# EAGLE library part A3932 (library allegro)
Three Phase Power MOSFET Controller High current gate drive capability, can drive a wide range of external MOSFETs. Supports motor supply voltages from 12 to 50V. Temp range -20 to 85 C
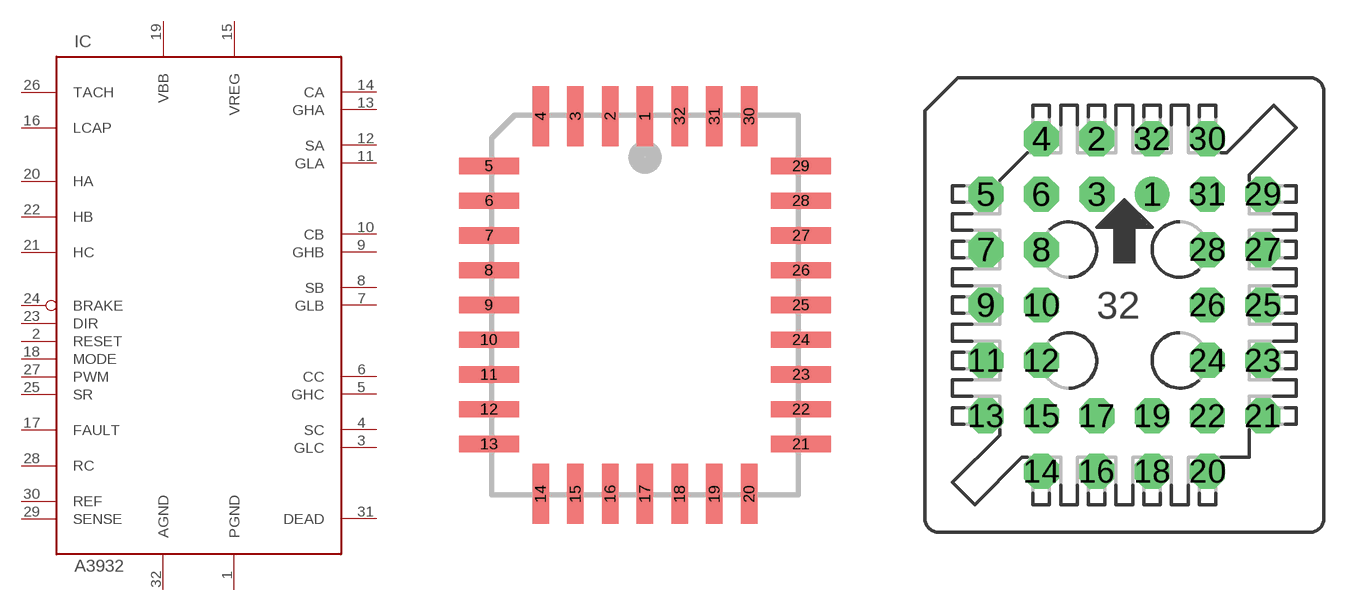
[diagram p3: symbol with the pads of PLCC32R; footprints PLCC32R, PLCC32R-S]

Designator prefix IC

## A3932SEQ  [PLCC32R]
1  PGND  pwr
2  RESET  in
3  GLC  out
4  SC  out
5  GHC  out
6  CC  out
7  GLB  out
8  SB  out
9  GHB  out
10  CB  out
11  GLA  out
12  SA  out
13  GHA  out
14  CA  out
15  VREG  pwr
16  LCAP
17  FAULT  out
18  MODE  in
19  VBB  pwr
20  HA  in
21  HC  in
22  HB  in
23  DIR  in
24  BRAKE  in
25  SR  in
26  TACH  out
27  PWM  in
28  RC
29  SENSE  in
30  REF  in
31  DEAD  in
32  AGND  pwr

## A3932SEQ-S  [PLCC32R-S]
Pads as for PLCC32R

## Footprint PLCC32R (pad centres in mm)
32-pin Rectangular Plastic Lead Chip Carrier
smd 0.6 x 2.2: 1 0,6.9; 2 -1.27,6.9; 3 -2.54,6.9; 4 -3.81,6.9; 14 -3.81,-6.9; 15 -2.54,-6.9; 16 -1.27,-6.9; 17 0,-6.9; 18 1.27,-6.9; 19 2.54,-6.9; 20 3.81,-6.9; 30 3.81,6.9; 31 2.54,6.9; 32 1.27,6.9
smd 2.2 x 0.6: 5 -5.7,5.08; 6 -5.7,3.81; 7 -5.7,2.54; 8 -5.7,1.27; 9 -5.7,0; 10 -5.7,-1.27; 11 -5.7,-2.54; 12 -5.7,-3.81; 13 -5.7,-5.08; 21 5.7,-5.08; 22 5.7,-3.81; 23 5.7,-2.54; 24 5.7,-1.27; 25 5.7,0; 26 5.7,1.27; 27 5.7,2.54; 28 5.7,3.81; 29 5.7,5.08

## Footprint PLCC32R-S (pad centres in mm)
32-pin rectangular PLCC socket, through-hole
drill 0.7 pad 1.6 round: 1 1.27,5.08
drill 0.7 pad 1.6 octagon: 2 -1.27,7.62; 3 -1.27,5.08; 4 -3.81,7.62; 5 -6.35,5.08; 6 -3.81,5.08; 7 -6.35,2.54; 8 -3.81,2.54; 9 -6.35,0; 10 -3.81,0; 11 -6.35,-2.54; 12 -3.81,-2.54; 13 -6.35,-5.08; 14 -3.81,-7.62; 15 -3.81,-5.08; 16 -1.27,-7.62; 17 -1.27,-5.08; 18 1.27,-7.62; 19 1.27,-5.08; 20 3.81,-7.62; 21 6.35,-5.08; 22 3.81,-5.08; 23 6.35,-2.54; 24 3.81,-2.54; 25 6.35,0; 26 3.81,0; 27 6.35,2.54; 28 3.81,2.54; 29 6.35,5.08; 30 3.81,7.62; 31 3.81,5.08; 32 1.27,7.62